# Altium footprint library 1N5819HW-7-F.PcbLib: 4 footprints
Each footprint in its own frame and in the unit in brackets; x right, y up, seen from the top. Pads: shape width x height; smd on the part's side, far side on the other; paste and mask are expansions set on the pad; w line width, h text height; cw(c..) or ccw(c..) is an arc to the next point about the centre after c.
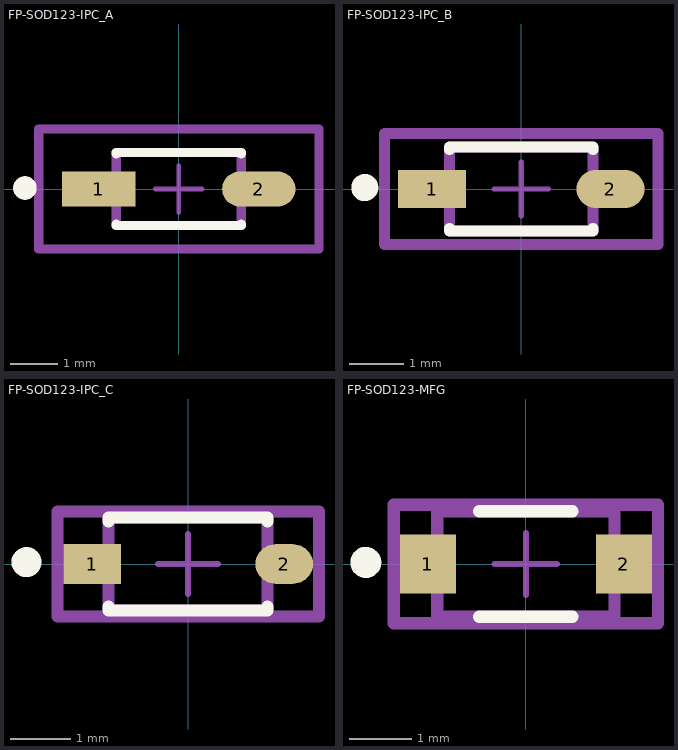
[diagram p0: the footprints below, top view; thin cyan lines are the x and y axes]

## FP-SOD123-IPC_A [mm]
pads (2):
  rect 1.557x0.742 smd paste+0 mask+0: 1(-1.7,0)
  rrect100% 1.557x0.742 smd paste+0 mask+0: 2(1.7,0)
Top Overlay:
  circle w0.25: c-3.27,0.021 r0.125
  lines w0.2: -1.325,-0.746 -1.325,-0.775 1.325,-0.775 1.325,-0.746 ; -1.325,0.746 -1.325,0.775 1.325,0.775 1.325,0.746
Top Assembly:
  lines w0.2: -2.979,-1.275 2.979,-1.275 2.979,1.275 -2.979,1.275 -2.979,-1.275
  text ".Designator" at 0,0.188 h1
Top 3D Body:
  lines w0.2: -1.325,-0.775 1.325,-0.775 1.325,0.775 -1.325,0.775 -1.325,-0.775
Top Courtyard:
  lines w0.2: -2.979,-1.275 2.979,-1.275 2.979,1.275 -2.979,1.275 -2.979,-1.275
Top Component Center:
  lines w0.1: -0.5,0 0.5,0 ; 0,-0.5 0,0.5
3D body "Diode_Diodes_Inc_MMSZ5245B-7-F_eec.STEP": height 0.25, standoff 0, extent -2.979,-1.275 2.979,1.275

## FP-SOD123-IPC_B [mm]
pads (2):
  rect 1.257x0.702 smd paste+0 mask+0: 1(-1.65,0)
  rrect100% 1.257x0.702 smd paste+0 mask+0: 2(1.65,0)
Top Overlay:
  circle w0.25: c-2.895,0.026 r0.125
  lines w0.2: -1.325,-0.726 -1.325,-0.775 1.325,-0.775 1.325,-0.726 ; -1.325,0.726 -1.325,0.775 1.325,0.775 1.325,0.726
Top Assembly:
  lines w0.2: -2.529,-1.025 2.529,-1.025 2.529,1.025 -2.529,1.025 -2.529,-1.025
  text ".Designator" at 0,0.188 h1
Top 3D Body:
  lines w0.2: -1.325,-0.775 1.325,-0.775 1.325,0.775 -1.325,0.775 -1.325,-0.775
Top Courtyard:
  lines w0.2: -2.529,-1.025 2.529,-1.025 2.529,1.025 -2.529,1.025 -2.529,-1.025
Top Component Center:
  lines w0.1: -0.5,0 0.5,0 ; 0,-0.5 0,0.5
3D body "Diode_Diodes_Inc_MMSZ5245B-7-F_eec.STEP": height 0.25, standoff 0, extent -2.529,-1.025 2.529,1.025

## FP-SOD123-IPC_C [mm]
pads (2):
  rect 0.957x0.662 smd paste+0 mask+0: 1(-1.6,0)
  rrect100% 0.957x0.662 smd paste+0 mask+0: 2(1.6,0)
Top Overlay:
  circle w0.25: c-2.695,0.031 r0.125
  lines w0.2: -1.325,-0.706 -1.325,-0.775 1.325,-0.775 1.325,-0.706 ; -1.325,0.706 -1.325,0.775 1.325,0.775 1.325,0.706
Top Assembly:
  lines w0.2: -2.179,-0.875 2.179,-0.875 2.179,0.875 -2.179,0.875 -2.179,-0.875
  text ".Designator" at 0,0.188 h1
Top 3D Body:
  lines w0.2: -1.325,-0.775 1.325,-0.775 1.325,0.775 -1.325,0.775 -1.325,-0.775
Top Courtyard:
  lines w0.2: -2.179,-0.875 2.179,-0.875 2.179,0.875 -2.179,0.875 -2.179,-0.875
Top Component Center:
  lines w0.1: -0.5,0 0.5,0 ; 0,-0.5 0,0.5
3D body "Diode_Diodes_Inc_MMSZ5245B-7-F_eec.STEP": height 0.25, standoff 0, extent -2.179,-0.875 2.179,0.875

## FP-SOD123-MFG [mm]
pads (2):
  rect 0.9x0.95 smd paste+0 mask+0: 1(-1.575,0) 2(1.575,0)
Top Overlay:
  circle w0.25: c-2.575,0.025 r0.125
  lines w0.2: -0.75,-0.85 0.75,-0.85 ; -0.75,0.85 0.75,0.85
Top Assembly:
  lines w0.2: -2.125,-0.95 2.125,-0.95 2.125,0.95 -2.125,0.95 -2.125,-0.95
  text ".Designator" at 0,-0.001 h1
Top 3D Body:
  lines w0.2: -1.425,-0.85 1.425,-0.85 1.425,0.85 -1.425,0.85 -1.425,-0.85
Top Courtyard:
  lines w0.2: -2.125,-0.95 2.125,-0.95 2.125,0.95 -2.125,0.95 -2.125,-0.95
Top Component Center:
  lines w0.1: -0.5,0 0.5,0 ; 0,-0.5 0,0.5
3D body "Diode_Diodes_Inc_MMSZ5245B-7-F_eec.STEP": height 0.25, standoff 0, extent -2.125,-0.95 2.125,0.95